# Altium footprint library ST1L05APU33R.PcbLib: 3 footprints
Each footprint in its own frame and in the unit in brackets; x right, y up, seen from the top. Pads: shape width x height; smd on the part's side, far side on the other; paste and mask are expansions set on the pad; w line width, h text height; cw(c..) or ccw(c..) is an arc to the next point about the centre after c.
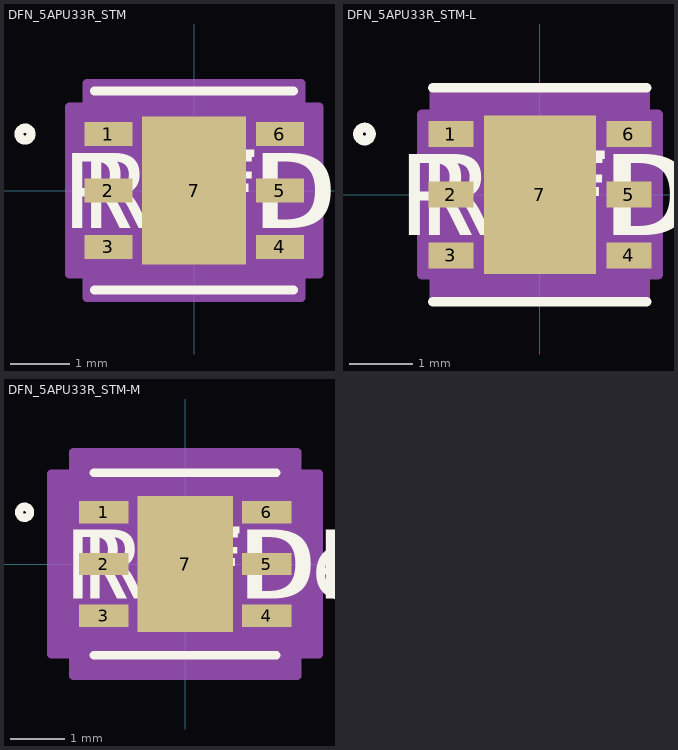
[diagram p0: the footprints below, top view; thin cyan lines are the x and y axes]

## DFN_5APU33R_STM [mm]
pads (7):
  rect 0.808x0.407 smd paste+0 mask+0: 1(-1.445,0.95) 2(-1.445,0) 3(-1.445,-0.95) 4(1.445,-0.95) 5(1.445,0) 6(1.445,0.95)
  rect 1.753x2.489 smd paste+0 mask+0: 7(0,0)
Top Overlay:
  circle w0.152: c-2.85,0.95 r0.102
  lines w0.152: -1.676,-1.676 1.676,-1.676 ; -1.676,1.676 1.676,1.676
  text "RefDes" at -1.905,-0.635 h1.27
  text "REFDES" at -2.222,-0.635 h1.27
Mechanical 13:
  circle w0: c-1.041,0.95 r0.076
  lines w0: -0.305,1.549 ccw(c0,1.549) 0.305,1.549
  lines w0.025: -1.549,-1.549 1.549,-1.549 1.549,1.549 -1.549,1.549 -1.549,-1.549
  text "RefDes2" at -2.222,-0.635 h1.27
Mechanical 15:
  region: -1.803,-1.408 -2.103,-1.408 -2.103,1.408 -1.803,1.408 -1.803,1.803 1.803,1.803 1.803,1.408 2.103,1.408 2.103,-1.408 1.803,-1.408 1.803,-1.803 -1.803,-1.803
  lines w0.152: -2.103,-1.408 -2.103,1.408 -1.803,1.408 -1.803,1.803 1.803,1.803 1.803,1.408 2.103,1.408 2.103,-1.408 1.803,-1.408 1.803,-1.803 -1.803,-1.803 -1.803,-1.408 -2.103,-1.408
3D body "DFN_5APU33R_STM.step": height 0.99, standoff 0, extent -1.549,-1.549 1.549,1.549

## DFN_5APU33R_STM-L [mm]
pads (7):
  rect 0.708x0.407 smd paste+0 mask+0: 1(-1.395,0.95) 2(-1.395,0) 3(-1.395,-0.95) 4(1.395,-0.95) 5(1.395,0) 6(1.395,0.95)
  rect 1.753x2.489 smd paste+0 mask+0: 7(0,0)
Top Overlay:
  circle w0.152: c-2.75,0.95 r0.102
  lines w0.152: -1.676,-1.676 1.676,-1.676 ; -1.676,1.676 1.676,1.676
  text "RefDes" at -1.905,-0.635 h1.27
  text "REFDES" at -2.222,-0.635 h1.27
Mechanical 13:
  circle w0: c-1.041,0.95 r0.076
  lines w0: -0.305,1.549 ccw(c0,1.549) 0.305,1.549
  lines w0.025: -1.549,-1.549 1.549,-1.549 1.549,1.549 -1.549,1.549 -1.549,-1.549
  text "RefDes2" at -2.222,-0.635 h1.27
Mechanical 15:
  region: -1.651,-1.255 -1.851,-1.255 -1.851,1.255 -1.651,1.255 -1.651,1.651 1.651,1.651 1.651,1.255 1.851,1.255 1.851,-1.255 1.651,-1.255 1.651,-1.651 -1.651,-1.651
  lines w0.152: -1.851,-1.255 -1.851,1.255 -1.651,1.255 -1.651,1.651 1.651,1.651 1.651,1.255 1.851,1.255 1.851,-1.255 1.651,-1.255 1.651,-1.651 -1.651,-1.651 -1.651,-1.255 -1.851,-1.255
3D body "DFN_5APU33R_STM.step": height 0.99, standoff 0, extent -1.549,-1.549 1.549,1.549

## DFN_5APU33R_STM-M [mm]
pads (7):
  rect 0.908x0.407 smd paste+0 mask+0: 1(-1.495,0.95) 2(-1.495,0) 3(-1.495,-0.95) 4(1.495,-0.95) 5(1.495,0) 6(1.495,0.95)
  rect 1.753x2.489 smd paste+0 mask+0: 7(0,0)
Top Overlay:
  circle w0.152: c-2.95,0.95 r0.102
  lines w0.152: -1.676,-1.676 1.676,-1.676 ; -1.676,1.676 1.676,1.676
  text "RefDes" at -1.905,-0.635 h1.27
  text "REFDES" at -2.222,-0.635 h1.27
Mechanical 13:
  circle w0: c-1.041,0.95 r0.076
  lines w0: -0.305,1.549 ccw(c0,1.549) 0.305,1.549
  lines w0.025: -1.549,-1.549 1.549,-1.549 1.549,1.549 -1.549,1.549 -1.549,-1.549
  text "RefDes2" at -2.222,-0.635 h1.27
Mechanical 15:
  region: -2.057,-1.662 -2.457,-1.662 -2.457,1.662 -2.057,1.662 -2.057,2.057 2.057,2.057 2.057,1.662 2.457,1.662 2.457,-1.662 2.057,-1.662 2.057,-2.057 -2.057,-2.057
  lines w0.152: -2.457,-1.662 -2.457,1.662 -2.057,1.662 -2.057,2.057 2.057,2.057 2.057,1.662 2.457,1.662 2.457,-1.662 2.057,-1.662 2.057,-2.057 -2.057,-2.057 -2.057,-1.662 -2.457,-1.662
3D body "DFN_5APU33R_STM.step": height 0.99, standoff 0, extent -1.549,-1.549 1.549,1.549